# EAGLE library part F15-SHEILD (library adafruit)
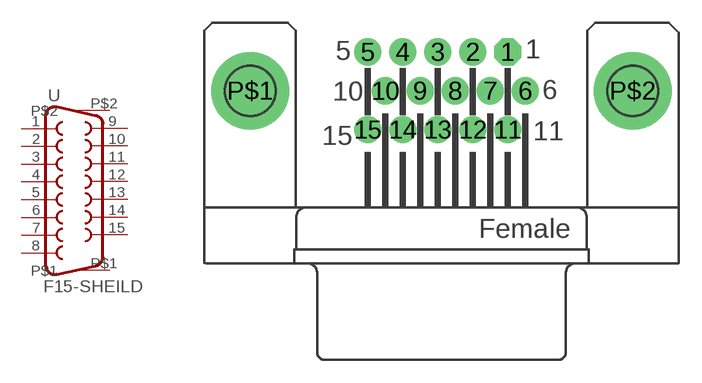
[diagram p109: symbol with the pads of HDF15H; footprint HDF15H]

Designator prefix -

## F15-SHEILD  [HDF15H]
1  1  pas
2  2  pas
3  3  pas
4  4  pas
5  5  pas
6  6  pas
7  7  pas
8  8  pas
9  9  pas
10  10  pas
11  11  pas
12  12  pas
13  13  pas
14  14  pas
15  15  pas
P$1  P$1
P$2  P$2

## Footprint HDF15H (pad centres in mm)
SUB-D
drill 0.9 pad 1.778 octagon: 1 4.329,2.54
drill 0.9 pad 1.778: 2 2.043,2.54; 3 -0.243,2.54; 4 -2.529,2.54; 5 -4.815,2.54; 6 5.472,0; 7 3.186,0; 8 0.9,0; 9 -1.386,0; 10 -3.672,0; 11 4.329,-2.54; 12 2.043,-2.54; 13 -0.243,-2.54; 14 -2.529,-2.54; 15 -4.815,-2.54
drill 2.8 pad 5.08: P$1 -12.5,0; P$2 12.5,0